# EAGLE library part HDMI (library we-con)
HDMI Connector
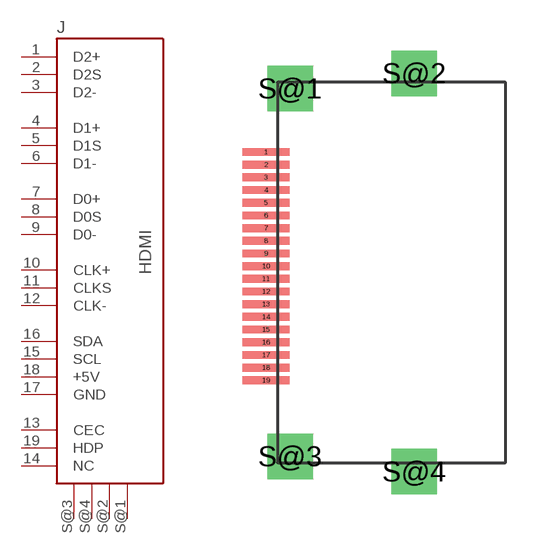
[diagram p26: symbol with the pads of HDMI_10029449; footprint HDMI_10029449]

Designator prefix J

## HDMI-A (DIGIKEY: 609-4614-2-ND)  [HDMI_10029449]
1  D2+
2  D2S
3  D2-
4  D1+
5  D1S
6  D1-
7  D0+
8  D0S
9  D0-
10  CLK+
11  CLKS
12  CLK-
13  CEC
14  NC
15  SCL
16  SDA
17  GND  pwr
18  +5V  pwr
19  HDP
S@1  SHLD  pas
S@2  SHLD  pas
S@3  SHLD  pas
S@4  SHLD  pas

## Footprint HDMI_10029449 (pad centres in mm)
FCI 10029449 (HDMI Type A)
smd 1.9 x 0.3: 1 -0.95,4.75; 2 -0.95,4.25; 3 -0.95,3.75; 4 -0.95,3.25; 5 -0.95,2.75; 6 -0.95,2.25; 7 -0.95,1.75; 8 -0.95,1.25; 9 -0.95,0.75; 10 -0.95,0.25; 11 -0.95,-0.25; 12 -0.95,-0.75; 13 -0.95,-1.25; 14 -0.95,-1.75; 15 -0.95,-2.25; 16 -0.95,-2.75; 17 -0.95,-3.25; 18 -0.95,-3.75; 19 -0.95,-4.25
drill 1.2 pad 1.8 square: S@1 0,7.25; S@2 4.9,7.85; S@3 0,-7.25; S@4 4.9,-7.85